# EAGLE library part LMC6464 (library IIT_BOMBAY_Racing)
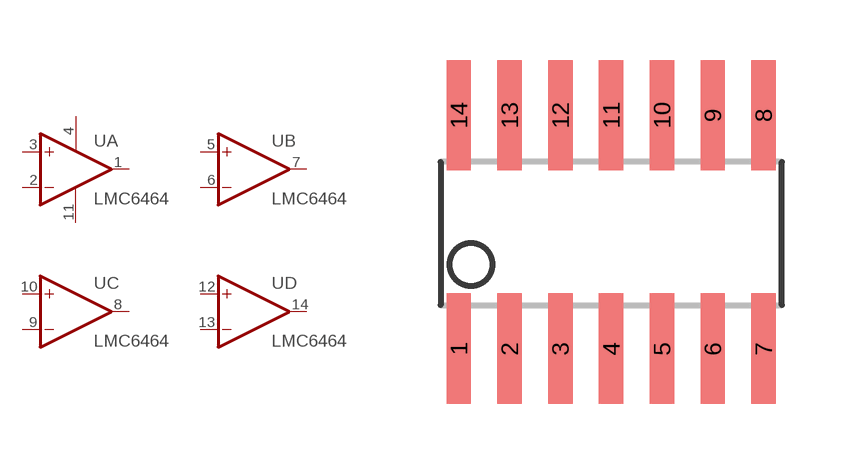
[diagram p3: symbol with the pads of SO14_LONGPADS; footprint SO14_LONGPADS]

Designator prefix -; gates A=OPAMP B=OPAMP C=OPAMP D=OPAMP POW=PWR+-

## LMC6464  [SO14_LONGPADS]
1  A:OUT  out
2  A:-IN  in
3  A:+IN  in
4  POW:V+  pwr
5  B:+IN  in
6  B:-IN  in
7  B:OUT  out
8  C:OUT  out
9  C:-IN  in
10  C:+IN  in
11  POW:V-  pwr
12  D:+IN  in
13  D:-IN  in
14  D:OUT  out

## Footprint SO14_LONGPADS (pad centres in mm)
smd 0.61 x 2.762: 1 -6.35,-1.61; 2 -5.08,-1.61; 3 -3.81,-1.61; 4 -2.54,-1.61; 5 -1.27,-1.61; 6 0,-1.61; 7 1.27,-1.61; 8 1.27,4.226; 9 0,4.226; 10 -1.27,4.226; 11 -2.54,4.226; 12 -3.81,4.226; 13 -5.08,4.226; 14 -6.35,4.226